# Altium footprint library 902131A1011D10100.PcbLib: 1 footprints
Each footprint in its own frame and in the unit in brackets; x right, y up, seen from the top. Pads: shape width x height; smd on the part's side, far side on the other; paste and mask are expansions set on the pad; w line width, h text height; cw(c..) or ccw(c..) is an arc to the next point about the centre after c.
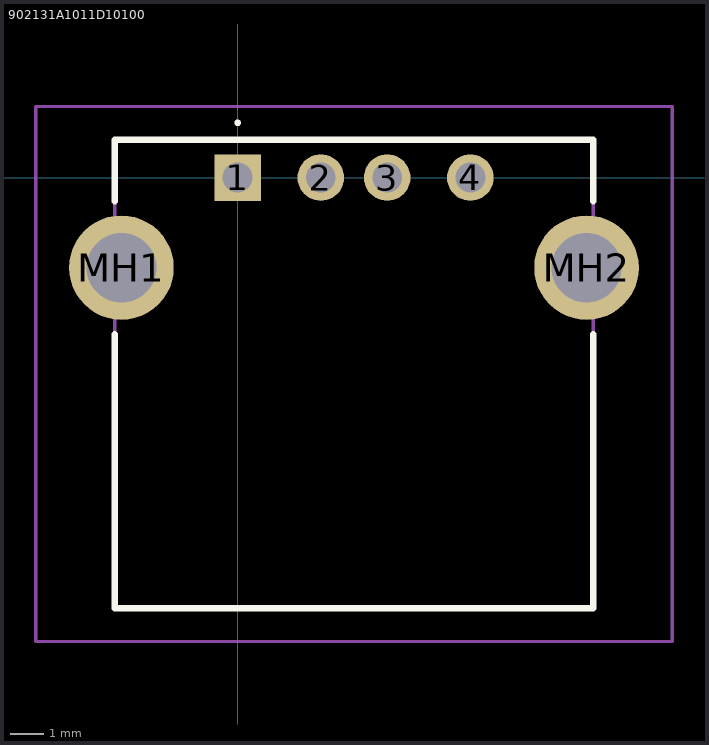
[diagram p0: the footprint, top view; thin cyan lines are the x and y axes]

## 902131A1011D10100 [mm]
pads (6):
  rect 1.4x1.4 hole 0.9: 1(0,0)
  round 1.4 hole 0.9: 2(2.5,0) 3(4.5,0) 4(7,0)
  round 3.15 hole 2.1: MH1(-3.5,-2.71) MH2(10.5,-2.71)
Top Overlay:
  lines w0.1: 0,1.6 0,1.6 ; 0,1.6 ccw(c0,1.65) 0,1.7 ; 0,1.6 cw(c0,1.65) 0,1.7 ; 0,1.7 0,1.7
  lines w0.2: -3.7,-4.71 -3.7,-12.96 10.7,-12.96 10.7,-5.21 10.7,-4.71 ; -3.7,-0.71 -3.7,1.14 10.7,1.14 10.7,-0.71
Mechanical 15:
  lines w0.1: -3.7,-12.96 10.7,-12.96 10.7,1.14 -3.7,1.14 -3.7,-12.96
Mechanical 20:
  lines w0.1: -6.075,-13.96 13.075,-13.96 13.075,2.14 -6.075,2.14 -6.075,-13.96